# EAGLE library part USB4105-GF-A (library USB4105-GF-A)
USB-C (USB TYPE-C) USB 2.0 Receptacle Connector 24 (16+8 Dummy) Position Surface Mount, Right Angle; Through Hole Check availability <https://pricing.snapeda.com/parts/USB4105-GF-A/GCT/view-part?ref=eda>
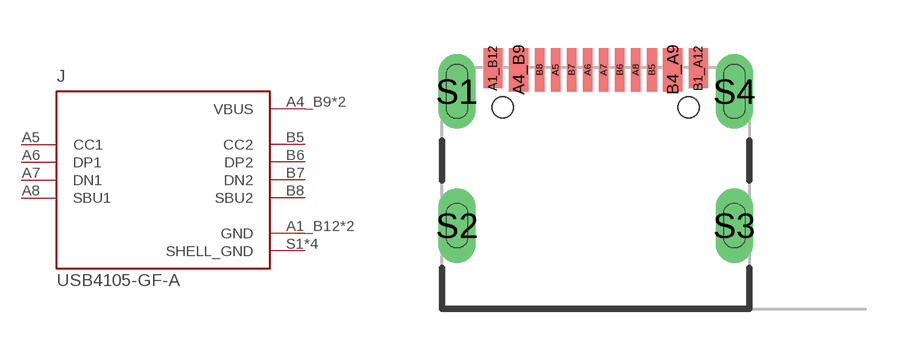
[diagram p0: symbol with the pads of GCT_USB4105-GF-A; footprint GCT_USB4105-GF-A]

Designator prefix J

## USB4105-GF-A (AVAILABILITY: In Stock; DESCRIPTION: USB-C (USB TYPE-C) USB 2.0 Receptacle Connector 24 (16+8 Dummy) Position Surface Mount, Right Angle; Through Hole; MF: GCT; MP: USB4105-GF-A; PACKAGE: None; PRICE: None; PURCHASE-URL: https://pricing.snapeda.com/search/part/USB4105-GF-A/?ref=eda)  [GCT_USB4105-GF-A]
A1_B12  GND  pwr
A4_B9  VBUS  pwr
A5  CC1
A6  DP1
A7  DN1
A8  SBU1
B1_A12  GND  pwr
B4_A9  VBUS  pwr
B5  CC2
B6  DP2
B7  DN2
B8  SBU2
S1  SHELL_GND  pwr
S2  SHELL_GND  pwr
S3  SHELL_GND  pwr
S4  SHELL_GND  pwr

## Footprint GCT_USB4105-GF-A (pad centres in mm)
USB4105-GF-A Modified footprint for JLCPCB Milling holes extended from 0.6mm to 0.66 mm GND pads moved upwards to avoid clearance issue All pads extended by 0.2mm to aid in hand soldering
smd 0.6 x 1.25: A1_B12 -3.2,4.905; B1_A12 3.2,4.905
smd 0.6 x 1.35: A4_B9 -2.4,4.855; B4_A9 2.4,4.855
smd 0.3 x 1.35: A5 -1.25,4.855; A6 -0.25,4.855; A7 0.25,4.855; A8 1.25,4.855; B5 1.75,4.855; B6 0.75,4.855; B7 -0.75,4.855; B8 -1.75,4.855
drill 0.66 pad 1.05 long: S1 -4.32,4.18; S4 4.32,4.18
drill 0.66 pad 1 long: S2 -4.32,0; S3 4.32,0
hole 0.65 at 2.89,3.68
hole 0.65 at -2.89,3.68